# Altium schematic symbol library SCH - POWER - SWITCHMODE - TI TPS65232A2_DCA_48.SchLib: 1 symbol
Pins are listed as number, name and electrical type; pins without a type are passive.

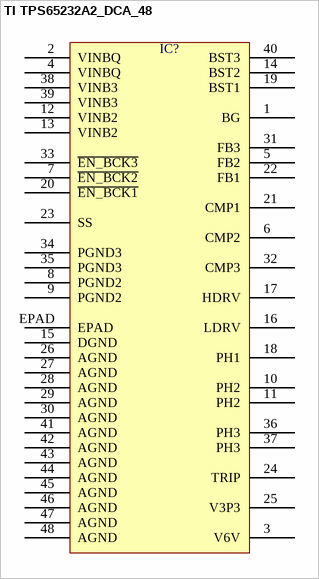
[diagram p0: symbol TI TPS65232A2_DCA_48]

## TI TPS65232A2_DCA_48
designator IC?  (value not drawn)
pins: 1 BG, 2 VINBQ, 3 V6V, 4 VINBQ, 5 FB2, 6 CMP2, 7 ~{EN_BCK2}, 8 PGND2, 9 PGND2, 10 PH2, 11 PH2, 12 VINB2, 13 VINB2, 14 BST2, 15 DGND, 16 LDRV, 17 HDRV, 18 PH1, 19 BST1, 20 ~{EN_BCK1}, 21 CMP1, 22 FB1, 23 SS, 24 TRIP, 25 V3P3, 26 AGND, 27 AGND, 28 AGND, 29 AGND, 30 AGND, 31 FB3, 32 CMP3, 33 ~{EN_BCK3}, 34 PGND3, 35 PGND3, 36 PH3, 37 PH3, 38 VINB3, 39 VINB3, 40 BST3, 41 AGND, 42 AGND, 43 AGND, 44 AGND, 45 AGND, 46 AGND, 47 AGND, 48 AGND, EPAD